# Altium schematic symbol library Q_PFET_3PIN_ESD.Schlib: 1 symbol
Pins are listed as number, name and electrical type; pins without a type are passive.

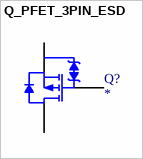
[diagram p0: symbol Q_PFET_3PIN_ESD]

## Q_PFET_3PIN_ESD
designator Q?
pins: DRAIN, GATE, SOURCE